# EAGLE library part UPI-80C452 (library micro-intel)
MICROCOMPUTER/PERIPHERAL DEVICE
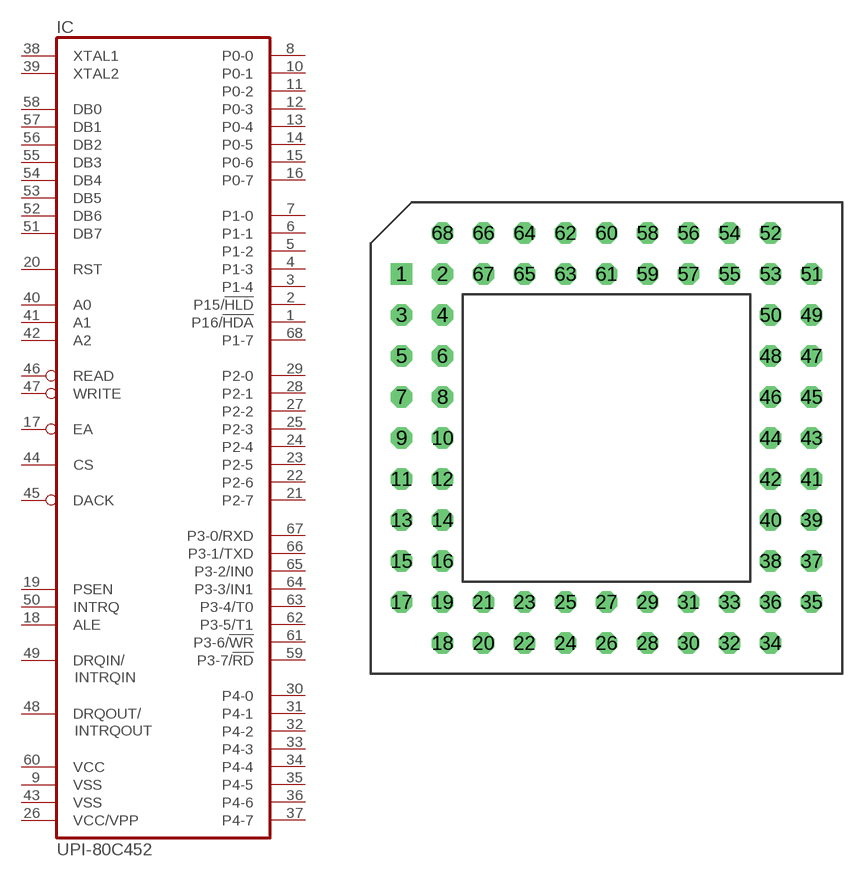
[diagram p10: symbol with the pads of PGA68-N; footprint PGA68-N]

Designator prefix IC

## UPI-80C452 (OC_FARNELL: unknown; OC_NEWARK: unknown)  [PGA68-N]
1  P16/!HDA
2  P15/!HLD
3  P1-4
4  P1-3
5  P1-2
6  P1-1
7  P1-0
8  P0-0
9  VSS  pwr
10  P0-1
11  P0-2
12  P0-3
13  P0-4
14  P0-5
15  P0-6
16  P0-7
17  EA  in
18  ALE  out
19  PSEN  out
20  RST  in
21  P2-7
22  P2-6
23  P2-5
24  P2-4
25  P2-3
26  VCC/VPP  pwr
27  P2-2
28  P2-1
29  P2-0
30  P4-0
31  P4-1
32  P4-2
33  P4-3
34  P4-4
35  P4-5
36  P4-6
37  P4-7
38  XTAL1  in
39  XTAL2  out
40  A0  in
41  A1  in
42  A2  in
43  VSS  pwr
44  CS  in
45  DACK  in
46  READ  in
47  WRITE  in
48  DRQOUT/  out
49  DRQIN/  out
50  INTRQ  out
51  DB7
52  DB6
53  DB5
54  DB4
55  DB3
56  DB2
57  DB1
58  DB0
59  P3-7/!RD
60  VCC  pwr
61  P3-6/!WR
62  P3-5/T1
63  P3-4/T0
64  P3-3/IN1
65  P3-2/IN0
66  P3-1/TXD
67  P3-0/RXD
68  P1-7

## Footprint PGA68-N (pad centres in mm)
Pin Grid Array
drill 0.813 square: 1 -12.7,10.16
drill 0.813 octagon: 2 -10.16,10.16; 3 -12.7,7.62; 4 -10.16,7.62; 5 -12.7,5.08; 6 -10.16,5.08; 7 -12.7,2.54; 8 -10.16,2.54; 9 -12.7,0; 10 -10.16,0; 11 -12.7,-2.54; 12 -10.16,-2.54; 13 -12.7,-5.08; 14 -10.16,-5.08; 15 -12.7,-7.62; 16 -10.16,-7.62; 17 -12.7,-10.16; 18 -10.16,-12.7; 19 -10.16,-10.16; 20 -7.62,-12.7; 21 -7.62,-10.16; 22 -5.08,-12.7; 23 -5.08,-10.16; 24 -2.54,-12.7; 25 -2.54,-10.16; 26 0,-12.7; 27 0,-10.16; 28 2.54,-12.7; 29 2.54,-10.16; 30 5.08,-12.7; 31 5.08,-10.16; 32 7.62,-12.7; 33 7.62,-10.16; 34 10.16,-12.7; 35 12.7,-10.16; 36 10.16,-10.16; 37 12.7,-7.62; 38 10.16,-7.62; 39 12.7,-5.08; 40 10.16,-5.08; 41 12.7,-2.54; 42 10.16,-2.54; 43 12.7,0; 44 10.16,0; 45 12.7,2.54; 46 10.16,2.54; 47 12.7,5.08; 48 10.16,5.08; 49 12.7,7.62; 50 10.16,7.62; 51 12.7,10.16; 52 10.16,12.7; 53 10.16,10.16; 54 7.62,12.7; 55 7.62,10.16; 56 5.08,12.7; 57 5.08,10.16; 58 2.54,12.7; 59 2.54,10.16; 60 0,12.7; 61 0,10.16; 62 -2.54,12.7; 63 -2.54,10.16; 64 -5.08,12.7; 65 -5.08,10.16; 66 -7.62,12.7; 67 -7.62,10.16; 68 -10.16,12.7